# Altium footprint library ET60T-D05-3-08-D05-L-R1-S.PcbLib: 1 footprints
Each footprint in its own frame and in the unit in brackets; x right, y up, seen from the top. Pads: shape width x height; smd on the part's side, far side on the other; paste and mask are expansions set on the pad; w line width, h text height; cw(c..) or ccw(c..) is an arc to the next point about the centre after c.
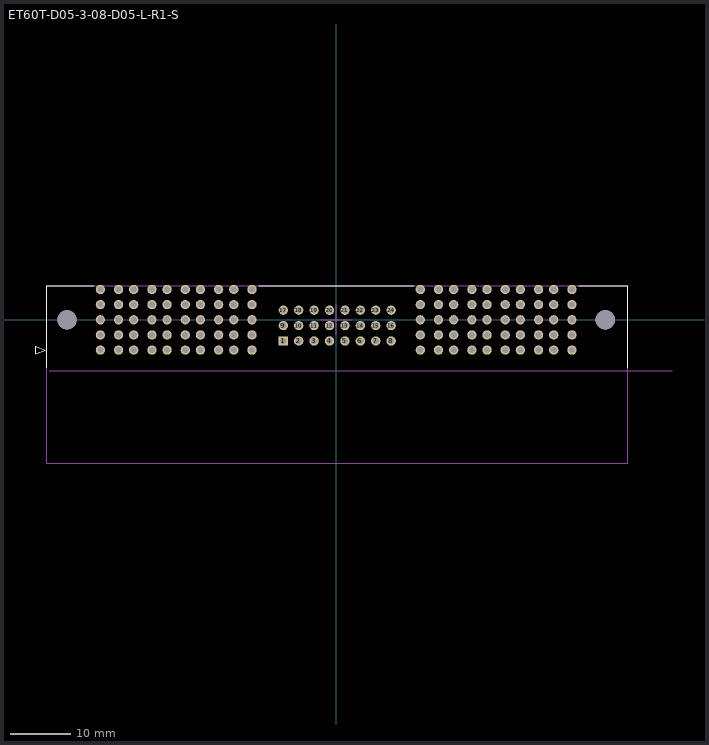
[diagram p0: the footprint, top view; thin cyan lines are the x and y axes]

## ET60T-D05-3-08-D05-L-R1-S [mm]
height 10
pads (126):
  rect 1.53x1.53 / inner round 1.53 / far side rect 1.53x1.53 hole 1.02: 1(-8.71,-3.5)
  round 1.53 hole 1.02: 2(-6.17,-3.5) 3(-3.63,-3.5) 4(-1.09,-3.5) 5(1.45,-3.5) 6(3.99,-3.5) 7(6.53,-3.5) 8(9.07,-3.5) 9(-8.71,-0.96) 10(-6.17,-0.96) 11(-3.63,-0.96) 12(-1.09,-0.96) 13(1.45,-0.96) 14(3.99,-0.96) 15(6.53,-0.96) 16(9.07,-0.96) 17(-8.71,1.58) 18(-6.17,1.58) 19(-3.63,1.58) 20(-1.09,1.58) 21(1.45,1.58) 22(3.99,1.58) 23(6.53,1.58) 24(9.07,1.58) P01(-38.88,-5) P01(-38.88,-2.5) P01(-38.88,0) P01(-38.88,2.5) P01(-38.88,5) P01(-35.88,-5) P01(-35.88,-2.5) P01(-35.88,0) P01(-35.88,2.5) P01(-35.88,5) P02(-33.38,-5) P02(-33.38,-2.5) P02(-33.38,0) P02(-33.38,2.5) P02(-33.38,5) P02(-30.38,-5) P02(-30.38,-2.5) P02(-30.38,0) P02(-30.38,2.5) P02(-30.38,5) P03(-27.88,-5) P03(-27.88,-2.5) P03(-27.88,0) P03(-27.88,2.5) P03(-27.88,5) P03(-24.88,-5) P03(-24.88,-2.5) P03(-24.88,0) P03(-24.88,2.5) P03(-24.88,5) P04(-22.38,-5) P04(-22.38,-2.5) P04(-22.38,0) P04(-22.38,2.5) P04(-22.38,5) P04(-19.38,-5) P04(-19.38,-2.5) P04(-19.38,0) P04(-19.38,2.5) P04(-19.38,5) P05(-16.88,-5) P05(-16.88,-2.5) P05(-16.88,0) P05(-16.88,2.5) P05(-16.88,5) P05(-13.88,-5) P05(-13.88,-2.5) P05(-13.88,0) P05(-13.88,2.5) P05(-13.88,5) P06(13.88,-5) P06(13.88,-2.5) P06(13.88,0) P06(13.88,2.5) P06(13.88,5) P06(16.88,-5) P06(16.88,-2.5) P06(16.88,0) P06(16.88,2.5) P06(16.88,5) P07(19.38,-5) P07(19.38,-2.5) P07(19.38,0) P07(19.38,2.5) P07(19.38,5) P07(22.38,-5) P07(22.38,-2.5) P07(22.38,0) P07(22.38,2.5) P07(22.38,5) P08(24.88,-5) P08(24.88,-2.5) P08(24.88,0) P08(24.88,2.5) P08(24.88,5) P08(27.88,-5) P08(27.88,-2.5) P08(27.88,0) P08(27.88,2.5) P08(27.88,5) P09(30.38,-5) P09(30.38,-2.5) P09(30.38,0) P09(30.38,2.5) P09(30.38,5) P09(33.38,-5) P09(33.38,-2.5) P09(33.38,0) P09(33.38,2.5) P09(33.38,5) P10(35.88,-5) P10(35.88,-2.5) P10(35.88,0) P10(35.88,2.5) P10(35.88,5) P10(38.88,-5) P10(38.88,-2.5) P10(38.88,0) P10(38.88,2.5) P10(38.88,5)
  round 3.2 hole 3.2 unplated: ""(-44.38,0) ""(44.38,0)
Top Overlay:
  lines w0.2: -47.7,-7.9 -47.7,5.6 -39.995,5.6 ; -12.765,5.6 12.765,5.6 ; 39.995,5.6 48.06,5.6 48.06,-7.9 ; -49.524,-5.635 -49.524,-4.365 -48,-5 -49.524,-5.635
Top Designator:
  text ".Designator" at -4.187,-9.45 h1.52
3D Body:
  lines w0.2: -47.319,-8.435 55.411,-8.435 ; -47.7,-23.65 -47.7,-7.9 -47.7,5.6 48.06,5.6 48.06,-23.65 -47.7,-23.65
  text "PCB EDGE" at 49,-8 h0.81
Center Cross:
  lines w0.2: -2.5,0 0,0 ; 0,-2.5 0,0 ; 0,2.5 0,0 ; 2.5,0 0,0
3D body "ET60T-D05-3-08-D05-L-R1-S.stp": height 10.01, standoff -4.45, extent -47.7,-23.662 48.06,5.588